# Altium schematic symbol library Schematics_Passives.SchLib: 8 symbols
Pins are listed as number, name and electrical type; pins without a type are passive.

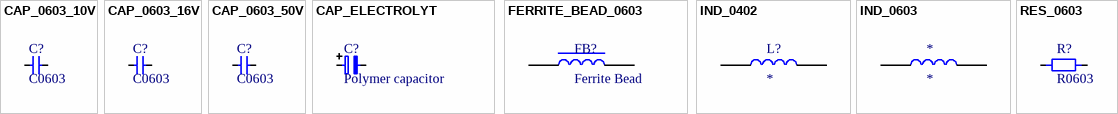
[diagram p0: symbols CAP_0603_10V to RES_0603]

## CAP_0603_10V
designator C?, comment C0603
Capacitor SMD 0603 10V
footprint CAP_0603
pins: 1, 2

## CAP_0603_16V
designator C?, comment C0603
Capacitor SMD 0603 16V
footprint CAP_0603
pins: 1, 2

## CAP_0603_50V
designator C?, comment C0603
Capacitor SMD 0603 50V
footprint CAP_0603
pins: 1, 2

## CAP_ELECTROLYT
designator C?, comment Polymer capacitor
pins: 1, 2

## FERRITE_BEAD_0603
designator FB?, comment Ferrite Bead
Ferrite Bead 0603
footprint Ferrite_Bead_0603
pins: 1, 2

## IND_0402
designator L?
footprint IND_0402
pins: 1, 2

## IND_0603
designator *
footprint IND_0603 (Chip Inductor, 2-Leads, Body 1.60x0.80mm, IPC Medium Density)
pins: 1, 2

## RES_0603
designator R?, comment R0603
Resistor SMD 0603
footprint R_0603
footprint RES_0603
pins: 1, 2